# Altium schematic symbol library esp32s3.SchLib: 1 symbol
Pins are listed as number, name and electrical type; pins without a type are passive.

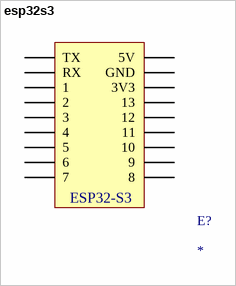
[diagram p0: symbol esp32s3]

## esp32s3
designator E?
footprint esp32s3
pins: 0 TX, 1 RX, 2 1, 3 2, 4 3, 5 4, 6 5, 7 6, 8 7, 9 8, 10 9, 11 10, 12 11, 13 12, 14 13, 15 3V3, 16 GND, 17 5V
text: ESP32-S3